# Altium schematic symbol library Term,Power,Side Entry,PCB Mount.Schlib: 1 symbol
Pins are listed as number, name and electrical type; pins without a type are passive.

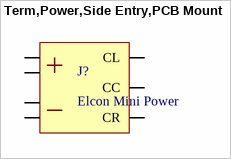
[diagram p0: symbol Term,Power,Side Entry,PCB Mount]

## Term,Power,Side Entry,PCB Mount
designator J?, comment Elcon Mini Power
CONN HEADER 2POS PCB
pins: 1 +, 1 +, 2 -, 2 -, 3 CL, 4 CC, 5 CR